# Altium footprint library pengyulib.PcbLib: 33 footprints (part 3 of 3)
Each footprint in its own frame and in the unit in brackets; x right, y up, seen from the top. Pads: shape width x height; smd on the part's side, far side on the other; paste and mask are expansions set on the pad; w line width, h text height; cw(c..) or ccw(c..) is an arc to the next point about the centre after c.
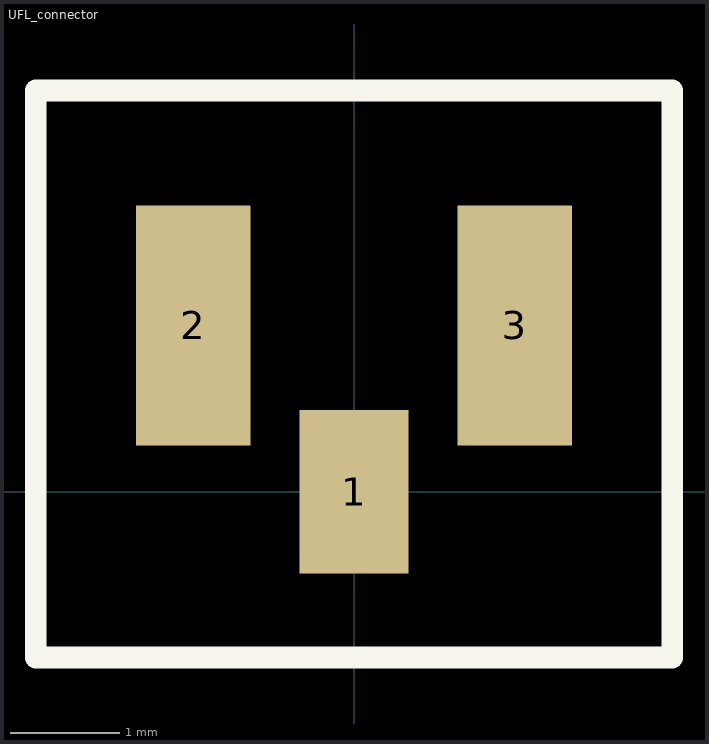
[diagram p2: the footprint, top view; thin cyan lines are the x and y axes]

## UFL_connector [mm]
pads (3):
  rect 1x1.5 smd: 1(0,0)
  rect 1.05x2.2 smd: 2(-1.475,1.525) 3(1.475,1.525)
Top Overlay:
  lines w0.2: -2.921,-1.524 -2.921,3.683 2.921,3.683 2.921,-1.524 -2.921,-1.524